# EAGLE library part DUAL-NFET-DMN2400 (library CMU-ArtFab)
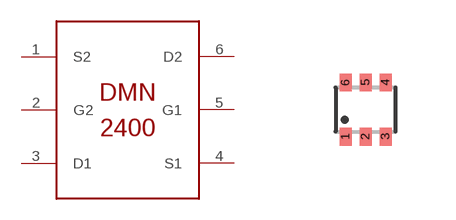
[diagram p30: symbol with the pads of SOT-563; footprint SOT-563]

Designator prefix IC

## DUAL-NFET-DMN2400  [SOT-563]
1  S2
2  G2
3  D1
4  S1
5  G1
6  D2

## Footprint SOT-563 (pad centres in mm)
SOT-563, 6 LEAD CASE 463A-01 ISSUE F Source: U6 OnSemi Inductive Load Driver MDC3105-D.PDF
smd 0.3 x 0.45: 1 -0.5,-0.675; 2 0,-0.675; 3 0.5,-0.675; 4 0.5,0.675; 5 0,0.675; 6 -0.5,0.675